# EAGLE library part DIP-IC-SOCKET(2X9P-2.54) (library OPL-Connector)
320070007
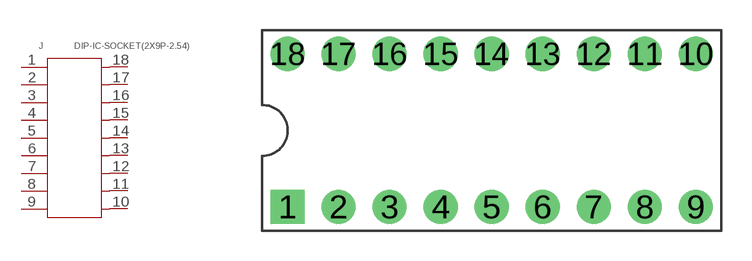
[diagram p41: symbol with the pads of SCK18-2.54-22.86X10.0MM; footprint SCK18-2.54-22.86X10.0MM]

Designator prefix J

## DIP-IC-SOCKET(2X9P-2.54)  [SCK18-2.54-22.86X10.0MM]
1  1
2  2
3  3
4  4
5  5
6  6
7  7
8  8
9  9
10  10
11  11
12  12
13  13
14  14
15  15
16  16
17  17
18  18

## Footprint SCK18-2.54-22.86X10.0MM (pad centres in mm)
drill 1 pad 1.7 square: 1 -10.16,-3.81
drill 1 pad 1.7: 2 -7.62,-3.81; 3 -5.08,-3.81; 4 -2.54,-3.81; 5 0,-3.81; 6 2.54,-3.81; 7 5.08,-3.81; 8 7.62,-3.81; 9 10.16,-3.81; 10 10.16,3.81; 11 7.62,3.81; 12 5.08,3.81; 13 2.54,3.81; 14 0,3.81; 15 -2.54,3.81; 16 -5.08,3.81; 17 -7.62,3.81; 18 -10.16,3.81